# EAGLE library part 3KEYS-CON (library BikeKeyboardEtc)
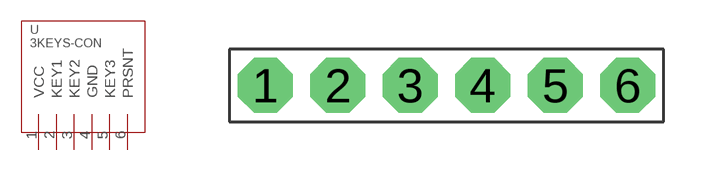
[diagram p0: symbol with the pads of 3KEYS-CON; footprint 3KEYS-CON]

Designator prefix -

## 3KEYS-CON  [3KEYS-CON]
1  VCC
2  KEY1
3  KEY2
4  GND
5  KEY3
6  PRSNT

## Footprint 3KEYS-CON (pad centres in mm)
drill 1 pad 1.93 octagon: 1 -6.35,0; 2 -3.81,0; 3 -1.27,0; 4 1.27,0; 5 3.81,0; 6 6.35,0